# Altium schematic symbol library SCHLib_Hidde.SchLib: 194 symbols (part 2 of 2)
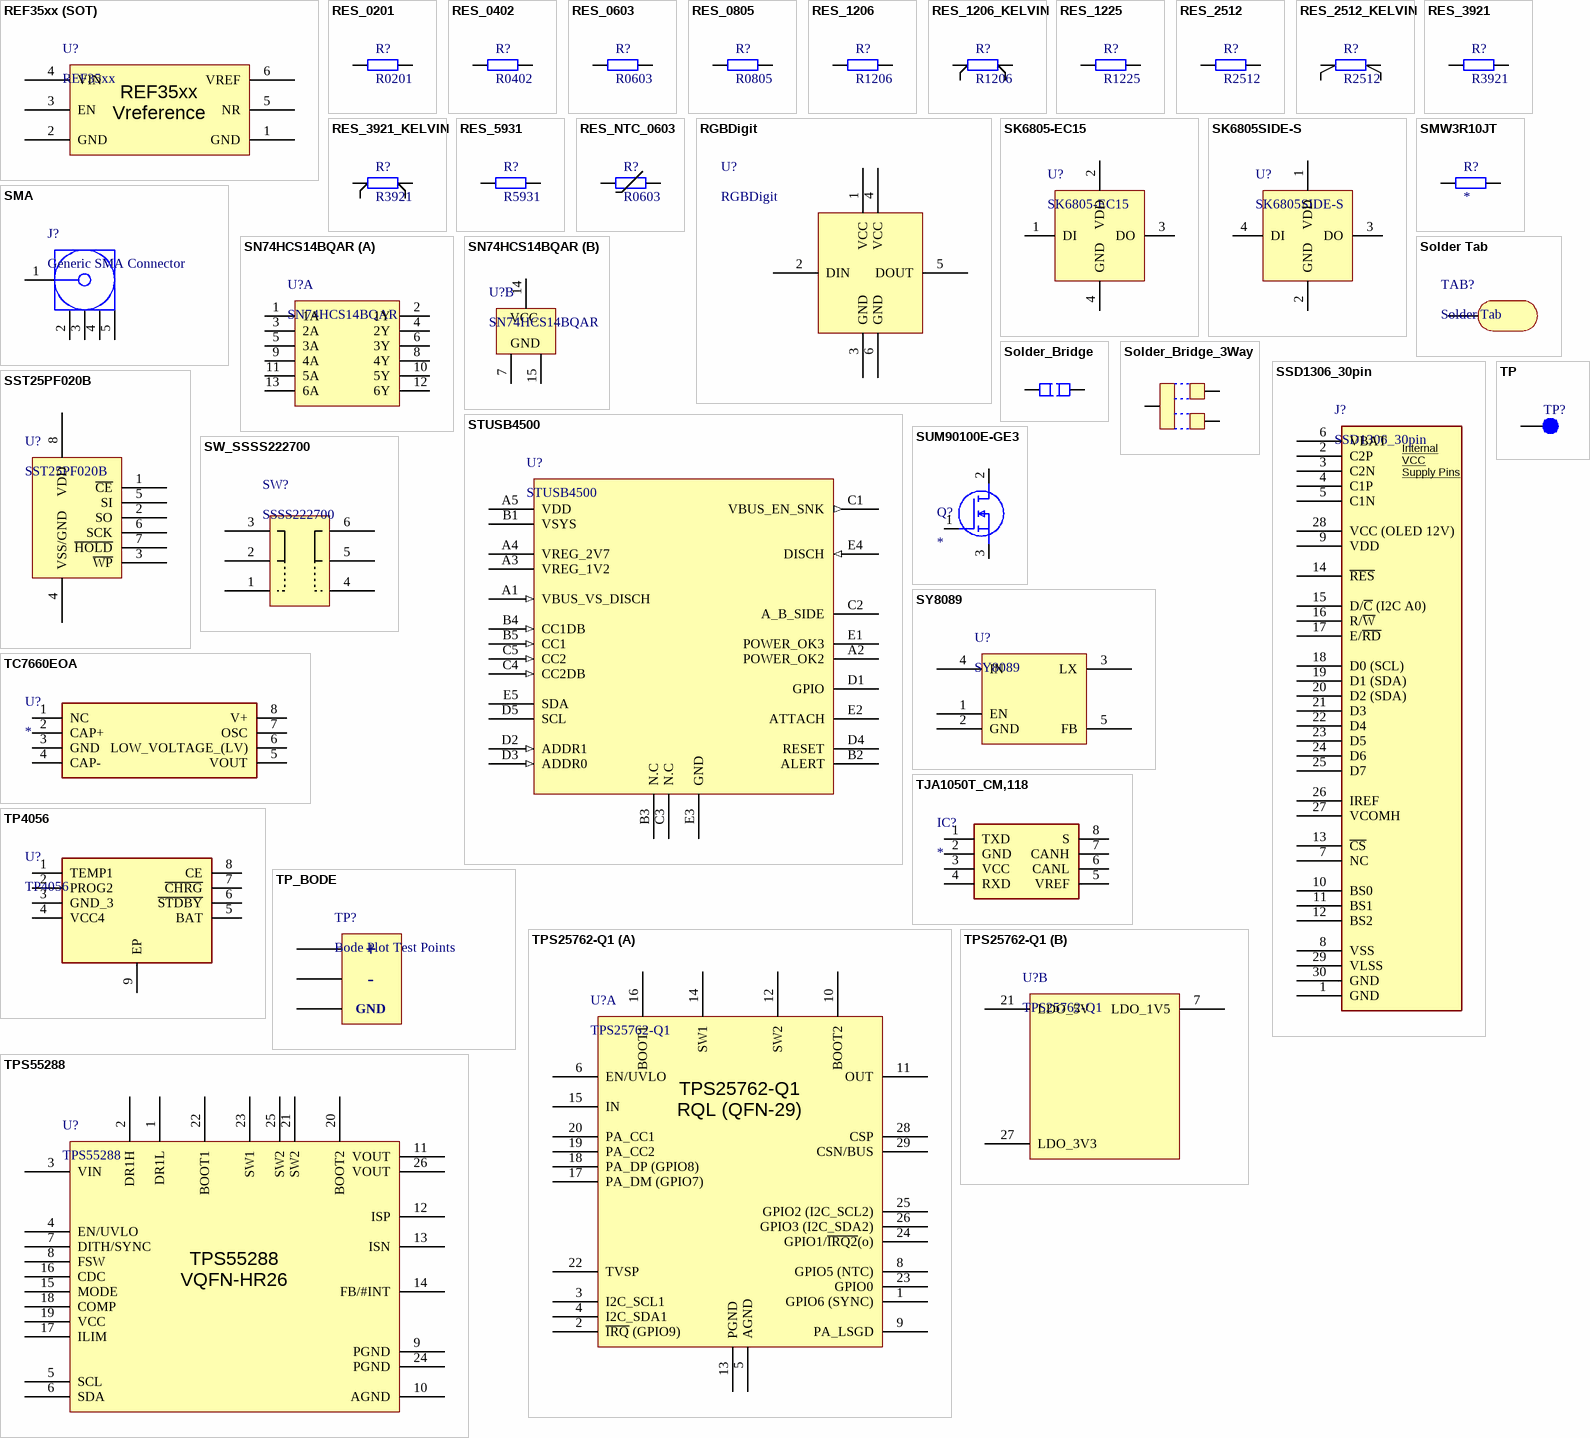
[diagram p6: symbols REF35xx (SOT) to TPS55288]

## TPS55288
designator U?
Programmable Buck-Boost Controller (2.7-36VIN) with PPS support for USB PD
footprint VQFN-HR26_RPM_TEX
pins: 1 DR1L, 2 DR1H, 3 VIN, 4 EN/UVLO, 5 SCL, 6 SDA, 7 DITH/SYNC, 8 FSW, 9 PGND, 10 AGND, 11 VOUT, 12 ISP, 13 ISN, 14 FB/#INT, 15 MODE, 16 CDC, 17 ILIM, 18 COMP, 19 VCC, 20 BOOT2, 21 SW2, 22 BOOT1, 23 SW1, 24 PGND, 25 SW2, 26 VOUT
text: TPS55288 / VQFN-HR26

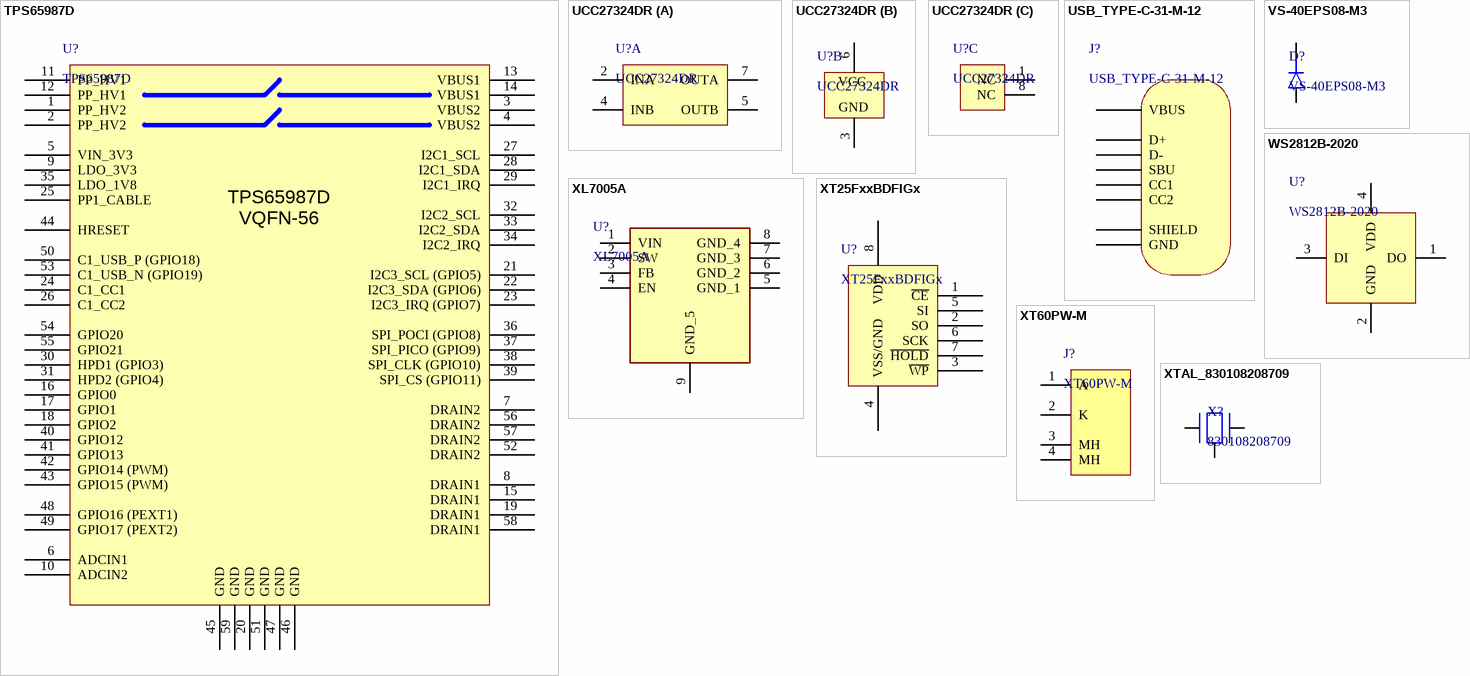
[diagram p5: symbols TPS65987D to XTAL_830108208709]

## TPS65987D
designator U?
TPS65987D USB Type-C® and USB PD Controller with Integrated Source and Sink / Power Path Supporting USB3 and Alternate Mode
footprint VQFN 56 (RSH)
pins: 1 PP_HV2, 2 PP_HV2, 3 VBUS2, 4 VBUS2, 5 VIN_3V3, 6 ADCIN1, 7 DRAIN2, 8 DRAIN1, 9 LDO_3V3, 10 ADCIN2, 11 PP_HV1, 12 PP_HV1, 13 VBUS1, 14 VBUS1, 15 DRAIN1, 16 GPIO0, 17 GPIO1, 18 GPIO2, 19 DRAIN1, 20 GND, 21 I2C3_SCL (GPIO5), 22 I2C3_SDA (GPIO6), 23 I2C3_IRQ (GPIO7), 24 C1_CC1, 25 PP1_CABLE, 26 C1_CC2, 27 I2C1_SCL, 28 I2C1_SDA, 29 I2C1_IRQ, 30 HPD1 (GPIO3), 31 HPD2 (GPIO4), 32 I2C2_SCL, 33 I2C2_SDA, 34 I2C2_IRQ, 35 LDO_1V8, 36 SPI_POCI (GPIO8), 37 SPI_PICO (GPIO9), 38 SPI_CLK (GPIO10), 39 SPI_CS (GPIO11), 40 GPIO12, 41 GPIO13, 42 GPIO14 (PWM), 43 GPIO15 (PWM), 44 HRESET, 45 GND, 46 GND, 47 GND, 48 GPIO16 (PEXT1), 49 GPIO17 (PEXT2), 50 C1_USB_P (GPIO18), 51 GND, 52 DRAIN2, 53 C1_USB_N (GPIO19), 54 GPIO20, 55 GPIO21, 56 DRAIN2, 57 DRAIN2, 58 DRAIN1, 59 GND
text: TPS65987D / VQFN-56

## UCC27324DR
designator U?
Dual 4-A Peak High-Speed Low-Side Power-MOSFET Drivers
footprint SOIC-8N
part A pins: 2 INA (power), 4 INB (power), 5 OUTB (power), 7 OUTA (power)
part B pins: 3 GND (power), 6 VDD (power)
part C pins: 1 NC (power), 8 NC (power)
part B text: VCC

## USB_TYPE-C-31-M-12
designator J?
Type C 10 Pin Connector (Chinese Generic)
footprint TYPE-C-31-M-12 (Generic USB Type C Connector); pin to pad 1>A4/B9+B4/A9 2>A6+B6 3>A7+B7 4>A8+B8 5>A5 6>B5 7>SHLD 8>A1/B12+B1/A12
pins: 1 VBUS, 2 D+, 3 D-, 4 SBU, 5 CC1, 6 CC2, 7 SHIELD, 8 GND

## VS-40EPS08-M3
designator D?
High Power Input Rectifier Diode 1.1V 40A
footprint TO-247-2; pin to pad A>1 K>3
pins: A, K

## WS2812B-2020
designator U?
Neopixel Compatible RGB LED
footprint WS2812B2020
pins: 1 DO, 2 GND, 3 DI, 4 VDD

## XL7005A
designator U?
Buck Converter Switch IC; Manufacturer_Name: XLSEMI; Datasheet Link: http://www.xlsemi.com/datasheet/XL7005A%20datasheet-Chinese.pdf; Height: 1.75mm; Manufacturer_Part_Number: XL7005A
footprint SOIC-8N-EP
pins: 1 VIN, 2 SW, 3 FB, 4 EN, 5 GND_1, 6 GND_2, 7 GND_3, 8 GND_4, 9 GND_5

## XT25FxxBDFIGx
designator U?
Quad SPI NOR Flash (xx Mbit)
footprint DFN8_EP (DFN8 Case used by XTX)
pins: 1 ~{CE}, 2 SO, 3 ~{WP}, 4 VSS/GND, 5 SI, 6 SCK, 7 ~{HOLD}, 8 VDD

## XT60PW-M
designator J?
Through Hole XT60 Right Angle Connector; Manufacturer_Name: Changzou Amass Elec; Datasheet Link: https://www.tme.eu/Document/9b8d0c5eb7094295f3d3112c214d3ade/XT60PW%20SPEC.pdf; Height: 8.4mm; Manufacturer_Part_Number: XT60PW-M
footprint XT60PWM
pins: 1 A, 2 K, 3 MH, 4 MH

## XTAL_830108208709
designator X?, comment 830108208709
40MHz in CFPX-218 Package (10ppm) by Würth Elektronik
footprint CFPX-218 (Crystal Resonator); pin to pad 2>2+4
pins: 1 Crystal, 2 GND, 3 Crystal